# Altium integrated library TI_Logic_Specialty_Logic.IntLib: 2504 symbols (part 2 of 81)
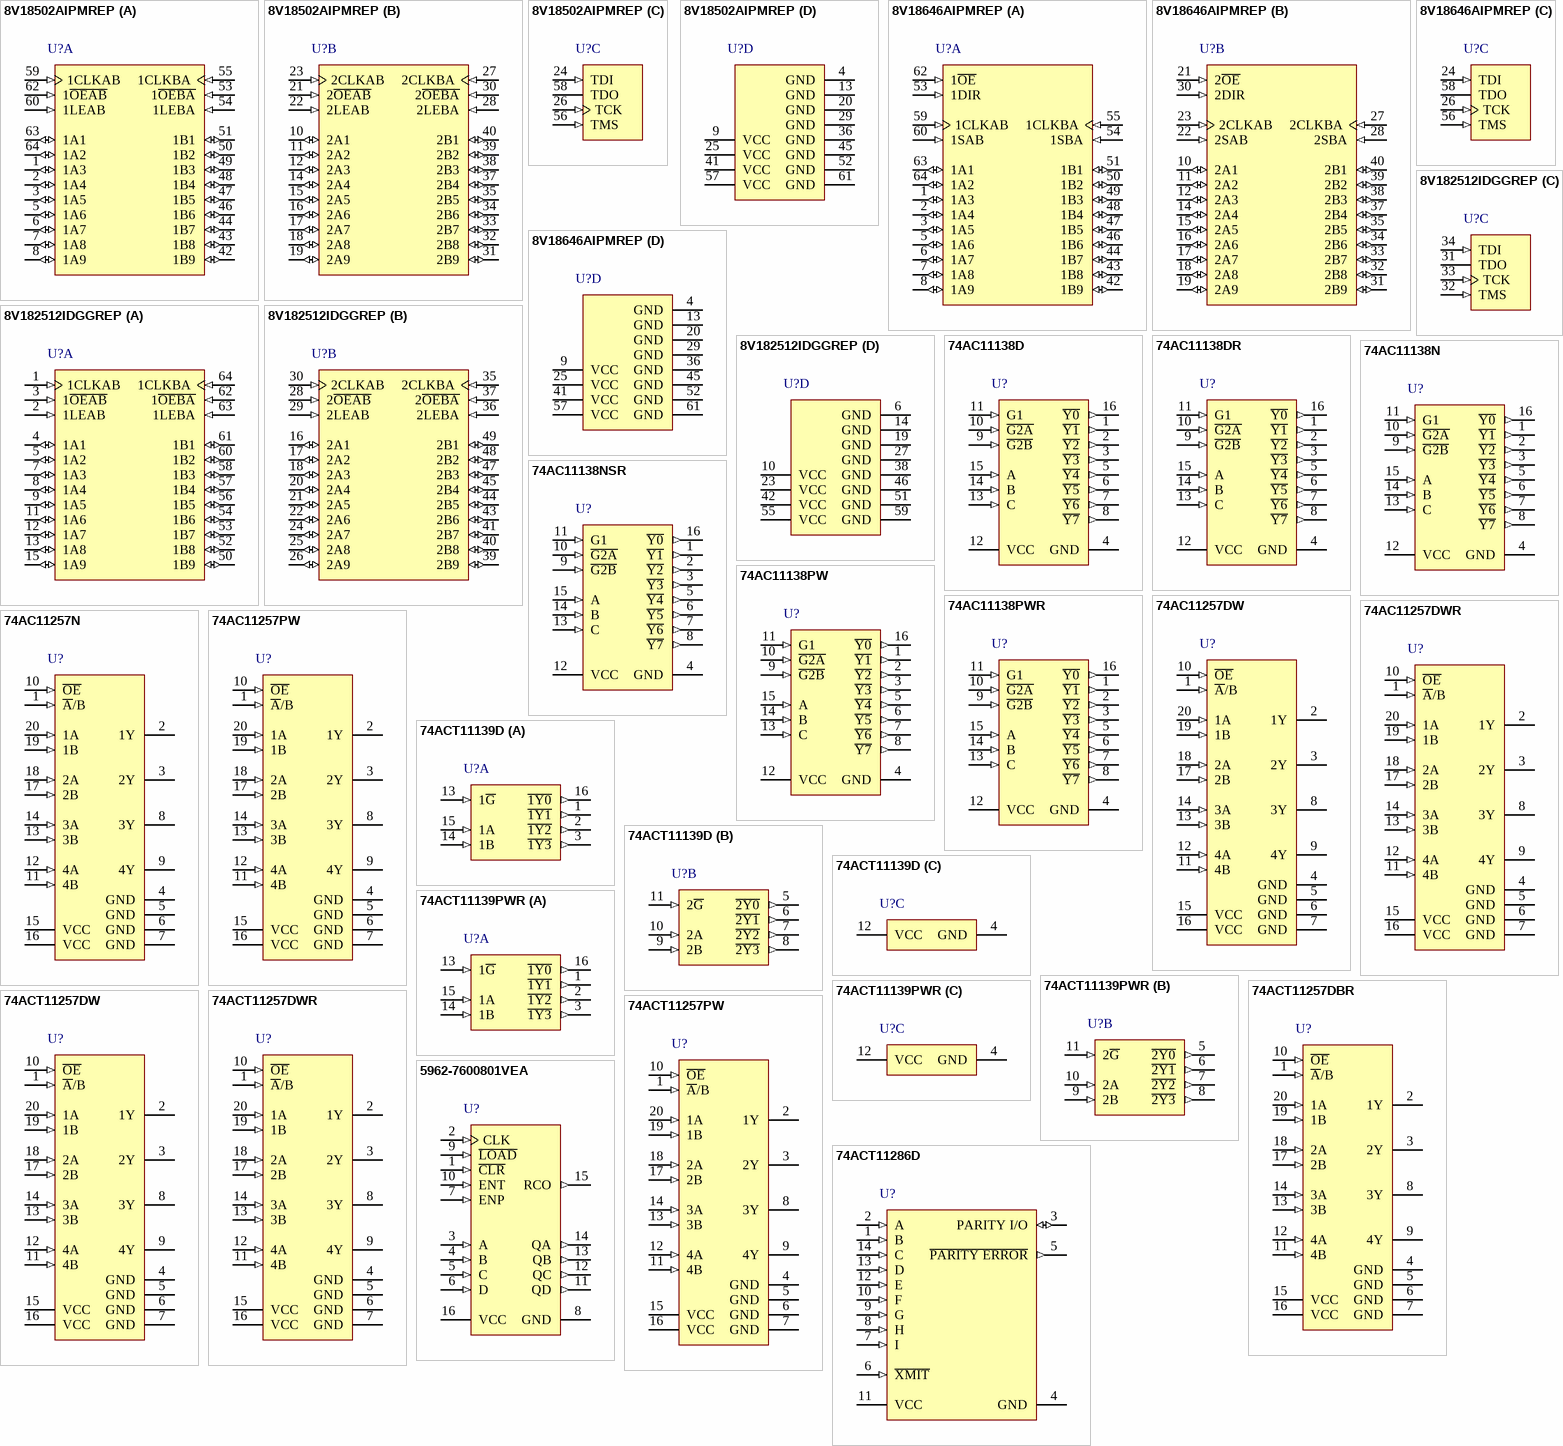
[diagram p105: symbols 8V18502AIPMREP to 5962-7600801VEA]

## 5962-7600801VEA
designator U?
Synchronous 4-Bit Counters, J0016A, TUBE; Generic Part Number: SN54LS161A-SP; Manufacturer: Texas Instruments; PartNumber: 5962-7600801VEA; VCC(Min)(V): 4.75; VCC(Max)(V): 5.25; Inputs: 1; ICC @ Nom Voltage(Max)(mA): 32; Bits(#): 4; F @ Nom Voltage(Max)(Mhz): 35; Rating: Space; Technology Family: LS; Output Drive (IOL/IOH)(Max)(mA): 8/-0.4; DatasheetVersion: SDLS060; PackageReference: J0016A; Function: Counter; Operating Temperature Range(C): -55 to 125; Type: Binary; tpd @ Nom Voltage(Max)(ns): 35; ComponentLink1Description: Manufacturer URL; ComponentLink1URL: http://www.ti.com/; ComponentLink2Description: Datasheet; ComponentLink2URL: http://www.ti.com/lit/ds/symlink/sn54ls161a-sp.pdf; ComponentLink3Description: Package Specification; ComponentLink3URL: http://www.ti.com/lit/ml/mcer002d/mcer002d.pdf
footprint J0016A (DIP, 16-Leads, Body 21.35x7.2mm, Pitch 2.54mm)
pins: 1 ~{CLR} (in), 2 CLK (in), 3 A (in), 4 B (in), 5 C (in), 6 D (in), 7 ENP (in), 8 GND (power), 9 ~{LOAD} (in), 10 ENT (in), 11 QD (out), 12 QC (out), 13 QB (out), 14 QA (out), 15 RCO (out), 16 VCC (power)

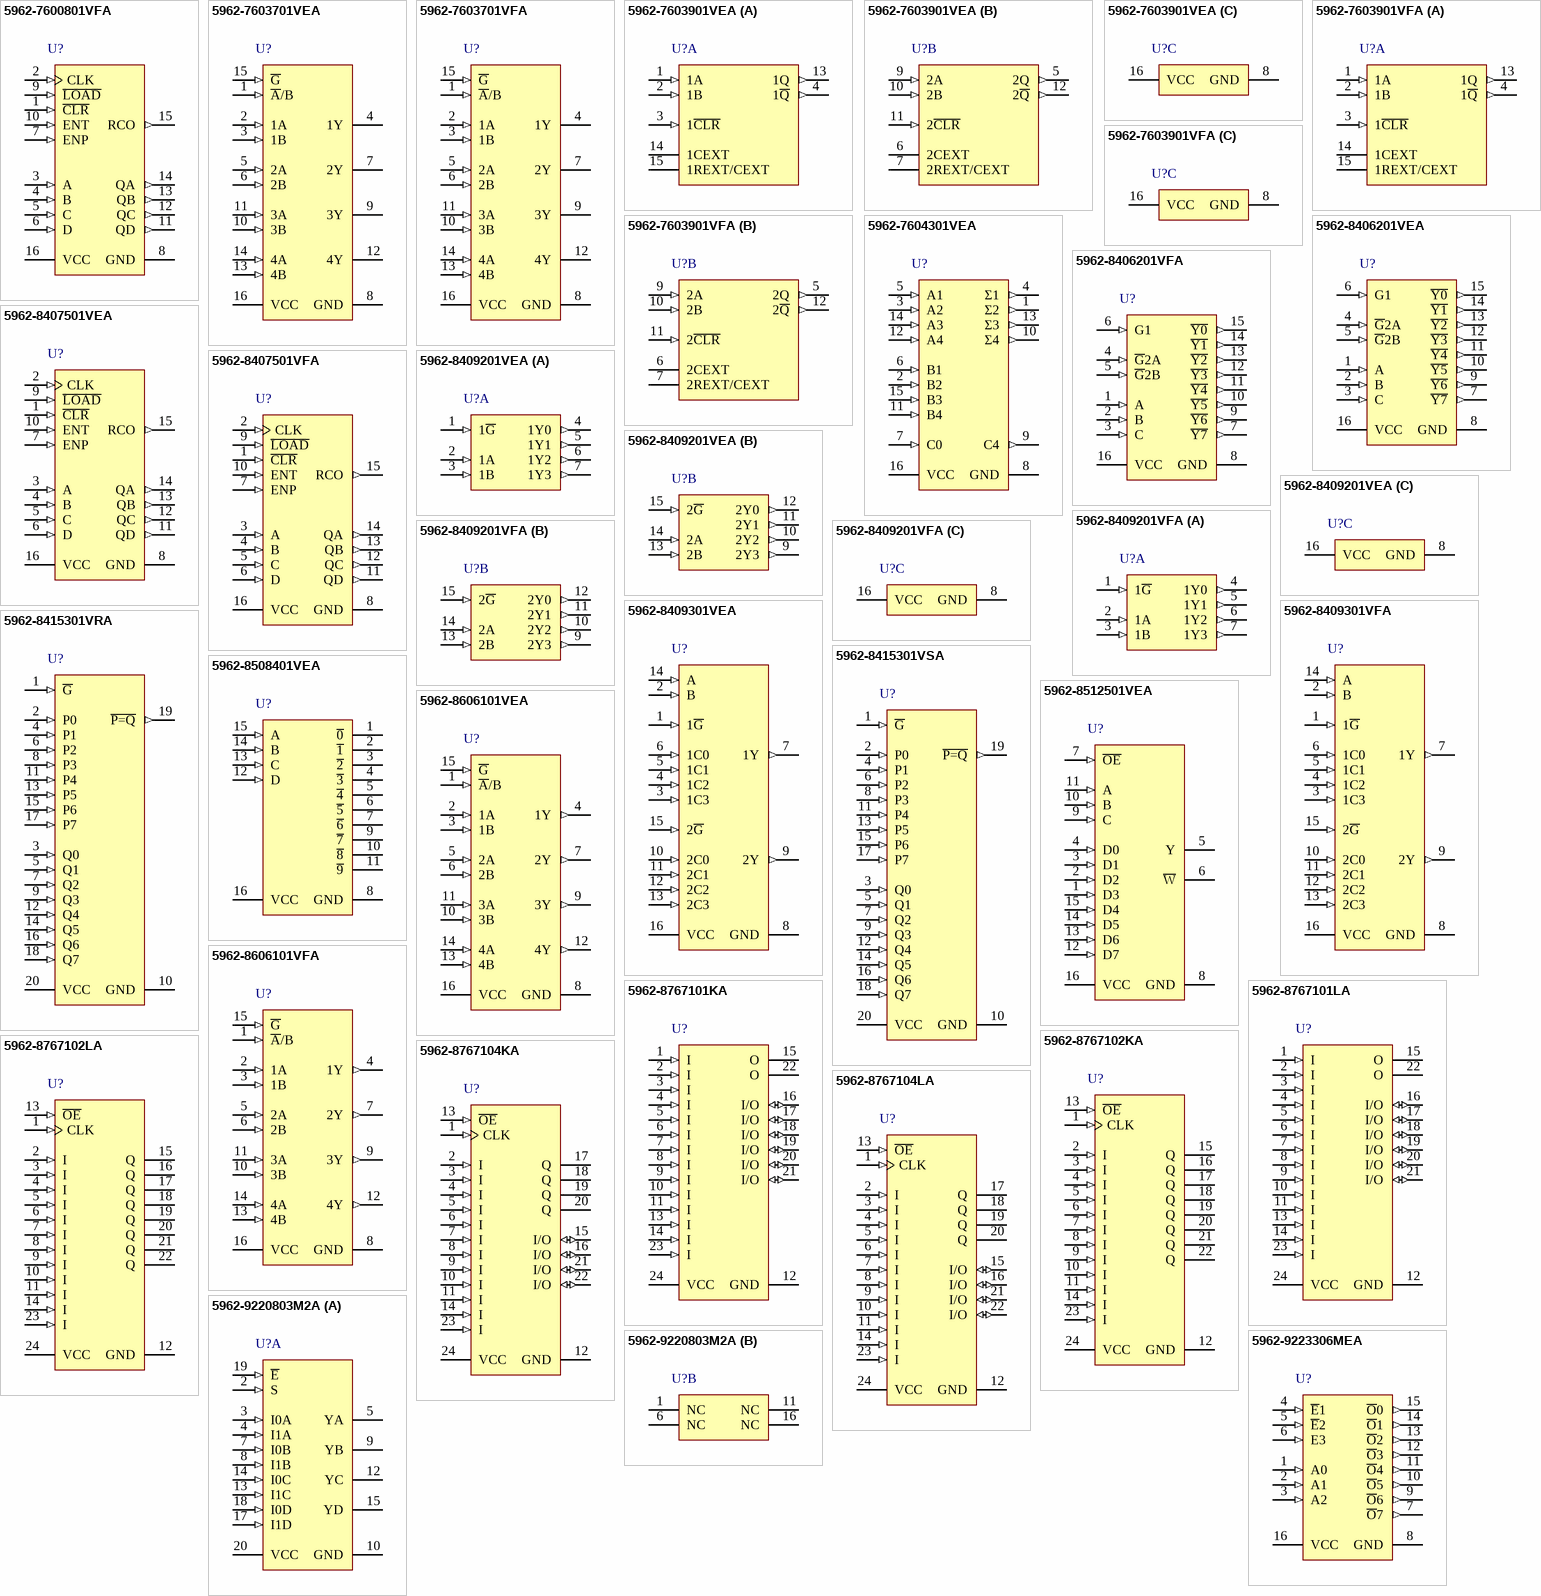
[diagram p1: symbols 5962-7600801VFA to 5962-9223306MEA]

## 5962-7600801VFA
designator U?
Synchronous 4-Bit Counters, W0016A, TUBE; Generic Part Number: SN54LS161A-SP; Manufacturer: Texas Instruments; PartNumber: 5962-7600801VFA; VCC(Min)(V): 4.75; VCC(Max)(V): 5.25; Inputs: 1; ICC @ Nom Voltage(Max)(mA): 32; Bits(#): 4; F @ Nom Voltage(Max)(Mhz): 35; Rating: Space; Technology Family: LS; Output Drive (IOL/IOH)(Max)(mA): 8/-0.4; DatasheetVersion: SDLS060; PackageReference: W0016A; Function: Counter; Operating Temperature Range(C): -55 to 125; Type: Binary; tpd @ Nom Voltage(Max)(ns): 35; ComponentLink1Description: Manufacturer URL; ComponentLink1URL: http://www.ti.com/; ComponentLink2Description: Datasheet; ComponentLink2URL: http://www.ti.com/lit/ds/symlink/sn54ls161a-sp.pdf; ComponentLink3Description: Package Specification; ComponentLink3URL: http://www.ti.com/lit/ml/mcfp004c/mcfp004c.pdf
footprint W0016A_N (CFP, 16-Leads, Body 10.92x7.24mm, Pitch 1.27mm, IPC Medium Density)
footprint W0016A_M (CFP, 16-Leads, Body 10.92x7.24mm, Pitch 1.27mm, IPC Low Density)
footprint W0016A_L (CFP, 16-Leads, Body 10.92x7.24mm, Pitch 1.27mm, IPC High Density)
pins: 1 ~{CLR} (in), 2 CLK (in), 3 A (in), 4 B (in), 5 C (in), 6 D (in), 7 ENP (in), 8 GND (power), 9 ~{LOAD} (in), 10 ENT (in), 11 QD (out), 12 QC (out), 13 QB (out), 14 QA (out), 15 RCO (out), 16 VCC (power)

## 5962-7603701VEA
designator U?
Quadruple 2-Line To 1-Line Data Selectors/Multiplexers, J0016A, TUBE; Generic Part Number: SN54LS257B-SP; Manufacturer: Texas Instruments; PartNumber: 5962-7603701VEA; VCC(Min)(V): 4.5; VCC(Max)(V): 5.5; Rating: Space; Technology Family: LS; Schmitt Trigger: No; DatasheetVersion: SDLS148; PackageReference: J0016A; Operating Temperature Range(C): -55 to 125; ComponentLink1Description: Manufacturer URL; ComponentLink1URL: http://www.ti.com/; ComponentLink2Description: Datasheet; ComponentLink2URL: http://www.ti.com/lit/ds/symlink/sn54ls257b-sp.pdf; ComponentLink3Description: Package Specification; ComponentLink3URL: http://www.ti.com/lit/ml/mcer002d/mcer002d.pdf
footprint J0016A (DIP, 16-Leads, Body 21.35x7.2mm, Pitch 2.54mm)
pins: 1 ~{A}/B (in), 2 1A (in), 3 1B (in), 4 1Y (hiz), 5 2A (in), 6 2B (in), 7 2Y (hiz), 8 GND (power), 9 3Y (hiz), 10 3B (in), 11 3A (in), 12 4Y (hiz), 13 4B (in), 14 4A (in), 15 ~{G} (in), 16 VCC (power)

## 5962-7603701VFA
designator U?
Quadruple 2-Line To 1-Line Data Selectors/Multiplexers, W0016A, TUBE; Generic Part Number: SN54LS257B-SP; Manufacturer: Texas Instruments; PartNumber: 5962-7603701VFA; VCC(Min)(V): 4.5; VCC(Max)(V): 5.5; Rating: Space; Technology Family: LS; Schmitt Trigger: No; DatasheetVersion: SDLS148; PackageReference: W0016A; Operating Temperature Range(C): -55 to 125; ComponentLink1Description: Manufacturer URL; ComponentLink1URL: http://www.ti.com/; ComponentLink2Description: Datasheet; ComponentLink2URL: http://www.ti.com/lit/ds/symlink/sn54ls257b-sp.pdf; ComponentLink3Description: Package Specification; ComponentLink3URL: http://www.ti.com/lit/ml/mcfp004c/mcfp004c.pdf
footprint W0016A_N (CFP, 16-Leads, Body 10.92x7.24mm, Pitch 1.27mm, IPC Medium Density)
footprint W0016A_M (CFP, 16-Leads, Body 10.92x7.24mm, Pitch 1.27mm, IPC Low Density)
footprint W0016A_L (CFP, 16-Leads, Body 10.92x7.24mm, Pitch 1.27mm, IPC High Density)
pins: 1 ~{A}/B (in), 2 1A (in), 3 1B (in), 4 1Y (hiz), 5 2A (in), 6 2B (in), 7 2Y (hiz), 8 GND (power), 9 3Y (hiz), 10 3B (in), 11 3A (in), 12 4Y (hiz), 13 4B (in), 14 4A (in), 15 ~{G} (in), 16 VCC (power)

## 5962-7603901VEA
designator U?
Retriggerable Monostable Multivibrators, J0016A, TUBE; Generic Part Number: SN54LS123-SP; Manufacturer: Texas Instruments; PartNumber: 5962-7603901VEA; VCC(Min)(V): 4.75; VCC(Max)(V): 5.25; Output Type: TTL; ICC @ Nom Voltage(Max)(mA): 20; Bits(#): 2; Rating: Space; Technology Family: LS; Output Drive (IOL/IOH)(Max)(mA): 8/-0.4; tpd @ Nom Voltage(Max)(ns): 56; DatasheetVersion: SDLS043; PackageReference: J0016A; Input Type: TTL; Operating Temperature Range(C): -55 to 125; ComponentLink1Description: Manufacturer URL; ComponentLink1URL: http://www.ti.com/; ComponentLink2Description: Datasheet; ComponentLink2URL: http://www.ti.com/lit/ds/symlink/sn54ls123-sp.pdf; ComponentLink3Description: Package Specification; ComponentLink3URL: http://www.ti.com/lit/ml/mcer002d/mcer002d.pdf
footprint J0016A (DIP, 16-Leads, Body 21.35x7.2mm, Pitch 2.54mm)
part A pins: 1 1A (in), 2 1B (in), 3 1~{CLR} (in), 4 1~{Q} (out), 13 1Q (out), 14 1CEXT, 15 1REXT/CEXT
part B pins: 5 2Q (out), 6 2CEXT, 7 2REXT/CEXT, 9 2A (in), 10 2B (in), 11 2~{CLR} (in), 12 2~{Q} (out)
part C pins: 8 GND (power), 16 VCC (power)

## 5962-7603901VFA
designator U?
Retriggerable Monostable Multivibrators, W0016A, TUBE; Generic Part Number: SN54LS123-SP; Manufacturer: Texas Instruments; PartNumber: 5962-7603901VFA; VCC(Min)(V): 4.75; VCC(Max)(V): 5.25; Output Type: TTL; ICC @ Nom Voltage(Max)(mA): 20; Bits(#): 2; Rating: Space; Technology Family: LS; Output Drive (IOL/IOH)(Max)(mA): 8/-0.4; tpd @ Nom Voltage(Max)(ns): 56; DatasheetVersion: SDLS043; PackageReference: W0016A; Input Type: TTL; Operating Temperature Range(C): -55 to 125; ComponentLink1Description: Manufacturer URL; ComponentLink1URL: http://www.ti.com/; ComponentLink2Description: Datasheet; ComponentLink2URL: http://www.ti.com/lit/ds/symlink/sn54ls123-sp.pdf; ComponentLink3Description: Package Specification; ComponentLink3URL: http://www.ti.com/lit/ml/mcfp004c/mcfp004c.pdf
footprint W0016A_N (CFP, 16-Leads, Body 10.92x7.24mm, Pitch 1.27mm, IPC Medium Density)
footprint W0016A_M (CFP, 16-Leads, Body 10.92x7.24mm, Pitch 1.27mm, IPC Low Density)
footprint W0016A_L (CFP, 16-Leads, Body 10.92x7.24mm, Pitch 1.27mm, IPC High Density)
part A pins: 1 1A (in), 2 1B (in), 3 1~{CLR} (in), 4 1~{Q} (out), 13 1Q (out), 14 1CEXT, 15 1REXT/CEXT
part B pins: 5 2Q (out), 6 2CEXT, 7 2REXT/CEXT, 9 2A (in), 10 2B (in), 11 2~{CLR} (in), 12 2~{Q} (out)
part C pins: 8 GND (power), 16 VCC (power)

## 5962-7604301VEA
designator U?
4-Bit Binary Full Adders With Fast Carry, J0016A, TUBE; Generic Part Number: SN54LS283-SP; Manufacturer: Texas Instruments; PartNumber: 5962-7604301VEA; VCC(Min)(V): 4.75; VCC(Max)(V): 5.25; Inputs: 9; Function: Arithmetic; ICC @ Nom Voltage(Max)(mA): 34; Bits(#): 4; F @ Nom Voltage(Max)(Mhz): 35; Rating: Space; Technology Family: LS; Output Drive (IOL/IOH)(Max)(mA): 8/-0.4; tpd @ Nom Voltage(Max)(ns): 24; DatasheetVersion: SDLS095A; PackageReference: J0016A; Type: Binary; ComponentLink1Description: Manufacturer URL; ComponentLink1URL: http://www.ti.com/; ComponentLink2Description: Datasheet; ComponentLink2URL: http://www.ti.com/lit/ds/symlink/sn54ls283-sp.pdf; ComponentLink3Description: Package Specification; ComponentLink3URL: http://www.ti.com/lit/ml/mcer002d/mcer002d.pdf
footprint J0016A (DIP, 16-Leads, Body 21.35x7.2mm, Pitch 2.54mm)
pins: 1 Σ2 (out), 2 B2 (in), 3 A2 (in), 4 Σ1 (out), 5 A1 (in), 6 B1 (in), 7 C0 (in), 8 GND (power), 9 C4 (out), 10 Σ4 (out), 11 B4 (in), 12 A4 (in), 13 Σ3 (out), 14 A3 (in), 15 B3 (in), 16 VCC (power)

## 5962-8406201VEA
designator U?
3-Line To 8-Line Decoders/Demultiplexers, J0016A, TUBE; Generic Part Number: SN54HC138-SP; Manufacturer: Texas Instruments; PartNumber: 5962-8406201VEA; VCC(Min)(V): 2; VCC(Max)(V): 6; Rating: Space; Technology Family: HC; Schmitt Trigger: No; DatasheetVersion: SCLS107E; PackageReference: J0016A; Operating Temperature Range(C): -55 to 125; ComponentLink1Description: Manufacturer URL; ComponentLink1URL: http://www.ti.com/; ComponentLink2Description: Datasheet; ComponentLink2URL: http://www.ti.com/lit/ds/symlink/sn54hc138-sp.pdf; ComponentLink3Description: Package Specification; ComponentLink3URL: http://www.ti.com/lit/ml/mcer002d/mcer002d.pdf
footprint J0016A (DIP, 16-Leads, Body 21.35x7.2mm, Pitch 2.54mm)
pins: 1 A (in), 2 B (in), 3 C (in), 4 ~{G}2A (in), 5 ~{G}2B (in), 6 G1 (in), 7 ~{Y7} (out), 8 GND (power), 9 ~{Y6} (out), 10 ~{Y5} (out), 11 ~{Y4} (out), 12 ~{Y3} (out), 13 ~{Y2} (out), 14 ~{Y1} (out), 15 ~{Y0} (out), 16 VCC (power)

## 5962-8406201VFA
designator U?
3-Line To 8-Line Decoders/Demultiplexers, W0016A, TUBE; Generic Part Number: SN54HC138-SP; Manufacturer: Texas Instruments; PartNumber: 5962-8406201VFA; VCC(Min)(V): 2; VCC(Max)(V): 6; Rating: Space; Technology Family: HC; Schmitt Trigger: No; DatasheetVersion: SCLS107E; PackageReference: W0016A; Operating Temperature Range(C): -55 to 125; ComponentLink1Description: Manufacturer URL; ComponentLink1URL: http://www.ti.com/; ComponentLink2Description: Datasheet; ComponentLink2URL: http://www.ti.com/lit/ds/symlink/sn54hc138-sp.pdf; ComponentLink3Description: Package Specification; ComponentLink3URL: http://www.ti.com/lit/ml/mcfp004c/mcfp004c.pdf
footprint W0016A_N (CFP, 16-Leads, Body 10.92x7.24mm, Pitch 1.27mm, IPC Medium Density)
footprint W0016A_M (CFP, 16-Leads, Body 10.92x7.24mm, Pitch 1.27mm, IPC Low Density)
footprint W0016A_L (CFP, 16-Leads, Body 10.92x7.24mm, Pitch 1.27mm, IPC High Density)
pins: 1 A (in), 2 B (in), 3 C (in), 4 ~{G}2A (in), 5 ~{G}2B (in), 6 G1 (in), 7 ~{Y7} (out), 8 GND (power), 9 ~{Y6} (out), 10 ~{Y5} (out), 11 ~{Y4} (out), 12 ~{Y3} (out), 13 ~{Y2} (out), 14 ~{Y1} (out), 15 ~{Y0} (out), 16 VCC (power)

## 5962-8407501VEA
designator U?
Synchronous 4-Bit Binary Counters, J0016A, TUBE; Generic Part Number: SN54HC161-SP; Manufacturer: Texas Instruments; PartNumber: 5962-8407501VEA; VCC(Min)(V): 2; VCC(Max)(V): 6; Inputs: 1; ICC @ Nom Voltage(Max)(mA): 0.08; Bits(#): 4; F @ Nom Voltage(Max)(Mhz): 28; Rating: Space; Technology Family: HC; Output Drive (IOL/IOH)(Max)(mA): 5.2/-5.2; tpd @ Nom Voltage(Max)(ns): 46; DatasheetVersion: SCLS297D; PackageReference: J0016A; Function: Counter; Type: Binary; ComponentLink1Description: Manufacturer URL; ComponentLink1URL: http://www.ti.com/; ComponentLink2Description: Datasheet; ComponentLink2URL: http://www.ti.com/lit/ds/symlink/sn54hc161-sp.pdf; ComponentLink3Description: Package Specification; ComponentLink3URL: http://www.ti.com/lit/ml/mcer002d/mcer002d.pdf
footprint J0016A (DIP, 16-Leads, Body 21.35x7.2mm, Pitch 2.54mm)
pins: 1 ~{CLR} (in), 2 CLK (in), 3 A (in), 4 B (in), 5 C (in), 6 D (in), 7 ENP (in), 8 GND (power), 9 ~{LOAD} (in), 10 ENT (in), 11 QD (out), 12 QC (out), 13 QB (out), 14 QA (out), 15 RCO (out), 16 VCC (power)

## 5962-8407501VFA
designator U?
Synchronous 4-Bit Binary Counters, W0016A, TUBE; Generic Part Number: SN54HC161-SP; Manufacturer: Texas Instruments; PartNumber: 5962-8407501VFA; VCC(Min)(V): 2; VCC(Max)(V): 6; Inputs: 1; ICC @ Nom Voltage(Max)(mA): 0.08; Bits(#): 4; F @ Nom Voltage(Max)(Mhz): 28; Rating: Space; Technology Family: HC; Output Drive (IOL/IOH)(Max)(mA): 5.2/-5.2; tpd @ Nom Voltage(Max)(ns): 46; DatasheetVersion: SCLS297D; PackageReference: W0016A; Function: Counter; Type: Binary; ComponentLink1Description: Manufacturer URL; ComponentLink1URL: http://www.ti.com/; ComponentLink2Description: Datasheet; ComponentLink2URL: http://www.ti.com/lit/ds/symlink/sn54hc161-sp.pdf; ComponentLink3Description: Package Specification; ComponentLink3URL: http://www.ti.com/lit/ml/mcfp004c/mcfp004c.pdf
footprint W0016A_N (CFP, 16-Leads, Body 10.92x7.24mm, Pitch 1.27mm, IPC Medium Density)
footprint W0016A_M (CFP, 16-Leads, Body 10.92x7.24mm, Pitch 1.27mm, IPC Low Density)
footprint W0016A_L (CFP, 16-Leads, Body 10.92x7.24mm, Pitch 1.27mm, IPC High Density)
pins: 1 ~{CLR} (in), 2 CLK (in), 3 A (in), 4 B (in), 5 C (in), 6 D (in), 7 ENP (in), 8 GND (power), 9 ~{LOAD} (in), 10 ENT (in), 11 QD (out), 12 QC (out), 13 QB (out), 14 QA (out), 15 RCO (out), 16 VCC (power)

## 5962-8409201VEA
designator U?
Dual 2-Line To 4-Line Decoders/Demultiplexers, J0016A, TUBE; Generic Part Number: SN54HC139-SP; Manufacturer: Texas Instruments; PartNumber: 5962-8409201VEA; VCC(Min)(V): 2; VCC(Max)(V): 6; Rating: Space; Technology Family: HC; Schmitt Trigger: No; DatasheetVersion: SCLS108D; PackageReference: J0016A; ComponentLink1Description: Manufacturer URL; ComponentLink1URL: http://www.ti.com/; ComponentLink2Description: Datasheet; ComponentLink2URL: http://www.ti.com/lit/ds/symlink/sn54hc139-sp.pdf; ComponentLink3Description: Package Specification; ComponentLink3URL: http://www.ti.com/lit/ml/mcer002d/mcer002d.pdf
footprint J0016A (DIP, 16-Leads, Body 21.35x7.2mm, Pitch 2.54mm)
part A pins: 1 1~{G} (in), 2 1A (in), 3 1B (in), 4 1Y0 (out), 5 1Y1 (out), 6 1Y2 (out), 7 1Y3 (out)
part B pins: 9 2Y3 (out), 10 2Y2 (out), 11 2Y1 (out), 12 2Y0 (out), 13 2B (in), 14 2A (in), 15 2~{G} (in)
part C pins: 8 GND (power), 16 VCC (power)

## 5962-8409201VFA
designator U?
Dual 2-Line To 4-Line Decoders/Demultiplexers, W0016A, TUBE; Generic Part Number: SN54HC139-SP; Manufacturer: Texas Instruments; PartNumber: 5962-8409201VFA; VCC(Min)(V): 2; VCC(Max)(V): 6; Rating: Space; Technology Family: HC; Schmitt Trigger: No; DatasheetVersion: SCLS108D; PackageReference: W0016A; ComponentLink1Description: Manufacturer URL; ComponentLink1URL: http://www.ti.com/; ComponentLink2Description: Datasheet; ComponentLink2URL: http://www.ti.com/lit/ds/symlink/sn54hc139-sp.pdf; ComponentLink3Description: Package Specification; ComponentLink3URL: http://www.ti.com/lit/ml/mcfp004c/mcfp004c.pdf
footprint W0016A_N (CFP, 16-Leads, Body 10.92x7.24mm, Pitch 1.27mm, IPC Medium Density)
footprint W0016A_M (CFP, 16-Leads, Body 10.92x7.24mm, Pitch 1.27mm, IPC Low Density)
footprint W0016A_L (CFP, 16-Leads, Body 10.92x7.24mm, Pitch 1.27mm, IPC High Density)
part A pins: 1 1~{G} (in), 2 1A (in), 3 1B (in), 4 1Y0 (out), 5 1Y1 (out), 6 1Y2 (out), 7 1Y3 (out)
part B pins: 9 2Y3 (out), 10 2Y2 (out), 11 2Y1 (out), 12 2Y0 (out), 13 2B (in), 14 2A (in), 15 2~{G} (in)
part C pins: 8 GND (power), 16 VCC (power)

## 5962-8409301VEA
designator U?
Dual 4-Line To 1-Line Data Selectors/Multiplexers, J0016A, TUBE; Generic Part Number: SN54HC153-SP; Manufacturer: Texas Instruments; PartNumber: 5962-8409301VEA; VCC(Min)(V): 2; VCC(Max)(V): 6; Rating: Space; Technology Family: HC; Schmitt Trigger: No; DatasheetVersion: SCLS112D; PackageReference: J0016A; ComponentLink1Description: Manufacturer URL; ComponentLink1URL: http://www.ti.com/; ComponentLink2Description: Datasheet; ComponentLink2URL: http://www.ti.com/lit/ds/symlink/sn54hc153-sp.pdf; ComponentLink3Description: Package Specification; ComponentLink3URL: http://www.ti.com/lit/ml/mcer002d/mcer002d.pdf
footprint J0016A (DIP, 16-Leads, Body 21.35x7.2mm, Pitch 2.54mm)
pins: 1 1~{G} (in), 2 B (in), 3 1C3 (in), 4 1C2 (in), 5 1C1 (in), 6 1C0 (in), 7 1Y (out), 8 GND (power), 9 2Y (out), 10 2C0 (in), 11 2C1 (in), 12 2C2 (in), 13 2C3 (in), 14 A (in), 15 2~{G} (in), 16 VCC (power)

## 5962-8409301VFA
designator U?
Dual 4-Line To 1-Line Data Selectors/Multiplexers, W0016A, TUBE; Generic Part Number: SN54HC153-SP; Manufacturer: Texas Instruments; PartNumber: 5962-8409301VFA; VCC(Min)(V): 2; VCC(Max)(V): 6; Rating: Space; Technology Family: HC; Schmitt Trigger: No; DatasheetVersion: SCLS112D; PackageReference: W0016A; ComponentLink1Description: Manufacturer URL; ComponentLink1URL: http://www.ti.com/; ComponentLink2Description: Datasheet; ComponentLink2URL: http://www.ti.com/lit/ds/symlink/sn54hc153-sp.pdf; ComponentLink3Description: Package Specification; ComponentLink3URL: http://www.ti.com/lit/ml/mcfp004c/mcfp004c.pdf
footprint W0016A_N (CFP, 16-Leads, Body 10.92x7.24mm, Pitch 1.27mm, IPC Medium Density)
footprint W0016A_M (CFP, 16-Leads, Body 10.92x7.24mm, Pitch 1.27mm, IPC Low Density)
footprint W0016A_L (CFP, 16-Leads, Body 10.92x7.24mm, Pitch 1.27mm, IPC High Density)
pins: 1 1~{G} (in), 2 B (in), 3 1C3 (in), 4 1C2 (in), 5 1C1 (in), 6 1C0 (in), 7 1Y (out), 8 GND (power), 9 2Y (out), 10 2C0 (in), 11 2C1 (in), 12 2C2 (in), 13 2C3 (in), 14 A (in), 15 2~{G} (in), 16 VCC (power)

## 5962-8415301VRA
designator U?
8-Bit Identity/Magnitude Comparators (P=Q) with Enable, J0020A, TUBE; Generic Part Number: SN54LS688-SP; Manufacturer: Texas Instruments; PartNumber: 5962-8415301VRA; VCC(Min)(V): 4.85; VCC(Max)(V): 5.25; Output Type: TTL; ICC @ Nom Voltage(Max)(mA): 65; Bits(#): 8; Rating: Space; Technology Family: LS; Output Drive (IOL/IOH)(Max)(mA): 24/-0.4; tpd @ Nom Voltage(Max)(ns): 23; DatasheetVersion: SDLS008; PackageReference: J0020A; Input Type: TTL; Operating Temperature Range(C): -55 to 125; ComponentLink1Description: Manufacturer URL; ComponentLink1URL: http://www.ti.com/; ComponentLink2Description: Datasheet; ComponentLink2URL: http://www.ti.com/lit/ds/symlink/sn54ls688-sp.pdf
footprint J0020A (DIP, 20-Leads, Body 26.9x7.2mm, Pitch 2.54mm)
pins: 1 ~{G} (in), 2 P0 (in), 3 Q0 (in), 4 P1 (in), 5 Q1 (in), 6 P2 (in), 7 Q2 (in), 8 P3 (in), 9 Q3 (in), 10 GND (power), 11 P4 (in), 12 Q4 (in), 13 P5 (in), 14 Q5 (in), 15 P6 (in), 16 Q6 (in), 17 P7 (in), 18 Q7 (in), 19 ~{P=Q} (out), 20 VCC (power)

## 5962-8415301VSA
designator U?
8-Bit Identity/Magnitude Comparators (P=Q) with Enable, W0020A, TUBE; Generic Part Number: SN54LS688-SP; Manufacturer: Texas Instruments; PartNumber: 5962-8415301VSA; VCC(Min)(V): 4.85; VCC(Max)(V): 5.25; Output Type: TTL; ICC @ Nom Voltage(Max)(mA): 65; Bits(#): 8; Rating: Space; Technology Family: LS; Output Drive (IOL/IOH)(Max)(mA): 24/-0.4; tpd @ Nom Voltage(Max)(ns): 23; DatasheetVersion: SDLS008; PackageReference: W0020A; Input Type: TTL; Operating Temperature Range(C): -55 to 125; ComponentLink1Description: Manufacturer URL; ComponentLink1URL: http://www.ti.com/; ComponentLink2Description: Datasheet; ComponentLink2URL: http://www.ti.com/lit/ds/symlink/sn54ls688-sp.pdf
footprint W0020A_N (CFP, 20-Leads, Body 13.72x7.62mm, Pitch 1.27mm, IPC Medium Density)
footprint W0020A_M (CFP, 20-Leads, Body 13.72x7.62mm, Pitch 1.27mm, IPC Low Density)
footprint W0020A_L (CFP, 20-Leads, Body 13.72x7.62mm, Pitch 1.27mm, IPC High Density)
pins: 1 ~{G} (in), 2 P0 (in), 3 Q0 (in), 4 P1 (in), 5 Q1 (in), 6 P2 (in), 7 Q2 (in), 8 P3 (in), 9 Q3 (in), 10 GND (power), 11 P4 (in), 12 Q4 (in), 13 P5 (in), 14 Q5 (in), 15 P6 (in), 16 Q6 (in), 17 P7 (in), 18 Q7 (in), 19 ~{P=Q} (out), 20 VCC (power)

## 5962-8508401VEA
designator U?
BCD-to-Decimal Decoders/Drivers, J0016A, TUBE; Generic Part Number: SN54LS145-SP; Manufacturer: Texas Instruments; PartNumber: 5962-8508401VEA; VCC(Min)(V): 4.5; VCC(Max)(V): 5.5; Rating: Space; Technology Family: LS; Schmitt Trigger: No; DatasheetVersion: SDLS051; PackageReference: J0016A; ComponentLink1Description: Manufacturer URL; ComponentLink1URL: http://www.ti.com/; ComponentLink2Description: Datasheet; ComponentLink2URL: http://www.ti.com/lit/ds/symlink/sn54ls145-sp.pdf; ComponentLink3Description: Package Specification; ComponentLink3URL: http://www.ti.com/lit/ml/mcer002d/mcer002d.pdf
footprint J0016A (DIP, 16-Leads, Body 21.35x7.2mm, Pitch 2.54mm)
pins: 1 ~{0} (oc), 2 ~{1} (oc), 3 ~{2} (oc), 4 ~{3} (oc), 5 ~{4} (oc), 6 ~{5} (oc), 7 ~{6} (oc), 8 GND (power), 9 ~{7} (oc), 10 ~{8} (oc), 11 ~{9} (oc), 12 D (in), 13 C (in), 14 B (in), 15 A (in), 16 VCC (power)

## 5962-8512501VEA
designator U?
Data Selectors/Multiplexers With 3-State Outputs, J0016A, TUBE; Generic Part Number: SN54HC251-SP; Manufacturer: Texas Instruments; PartNumber: 5962-8512501VEA; VCC(Min)(V): 2; VCC(Max)(V): 6; Rating: Space; Technology Family: HC; Schmitt Trigger: No; DatasheetVersion: SCLS132E; PackageReference: J0016A; ComponentLink1Description: Manufacturer URL; ComponentLink1URL: http://www.ti.com/; ComponentLink2Description: Datasheet; ComponentLink2URL: http://www.ti.com/lit/ds/symlink/sn54hc251-sp.pdf; ComponentLink3Description: Package Specification; ComponentLink3URL: http://www.ti.com/lit/ml/mcer002d/mcer002d.pdf
footprint J0016A (DIP, 16-Leads, Body 21.35x7.2mm, Pitch 2.54mm)
pins: 1 D3 (in), 2 D2 (in), 3 D1 (in), 4 D0 (in), 5 Y (hiz), 6 ~{W} (hiz), 7 ~{OE} (in), 8 GND (power), 9 C (in), 10 B (in), 11 A (in), 12 D7 (in), 13 D6 (in), 14 D5 (in), 15 D4 (in), 16 VCC (power)

## 5962-8606101VEA
designator U?
Quadruple 2-Line To 1-Line Data Selectors/Multiplexers, J0016A, TUBE; Generic Part Number: SN54HC157-SP; Manufacturer: Texas Instruments; PartNumber: 5962-8606101VEA; VCC(Min)(V): 2; VCC(Max)(V): 6; Rating: Space; Technology Family: HC; Schmitt Trigger: No; DatasheetVersion: SCLS113D; PackageReference: J0016A; ComponentLink1Description: Manufacturer URL; ComponentLink1URL: http://www.ti.com/; ComponentLink2Description: Datasheet; ComponentLink2URL: http://www.ti.com/lit/ds/symlink/sn54hc157-sp.pdf; ComponentLink3Description: Package Specification; ComponentLink3URL: http://www.ti.com/lit/ml/mcer002d/mcer002d.pdf
footprint J0016A (DIP, 16-Leads, Body 21.35x7.2mm, Pitch 2.54mm)
pins: 1 ~{A}/B (in), 2 1A (in), 3 1B (in), 4 1Y (out), 5 2A (in), 6 2B (in), 7 2Y (out), 8 GND (power), 9 3Y (out), 10 3B (in), 11 3A (in), 12 4Y (out), 13 4B (in), 14 4A (in), 15 ~{G} (in), 16 VCC (power)

## 5962-8606101VFA
designator U?
Quadruple 2-Line To 1-Line Data Selectors/Multiplexers, W0016A, TUBE; Generic Part Number: SN54HC157-SP; Manufacturer: Texas Instruments; PartNumber: 5962-8606101VFA; VCC(Min)(V): 2; VCC(Max)(V): 6; Rating: Space; Technology Family: HC; Schmitt Trigger: No; DatasheetVersion: SCLS113D; PackageReference: W0016A; ComponentLink1Description: Manufacturer URL; ComponentLink1URL: http://www.ti.com/; ComponentLink2Description: Datasheet; ComponentLink2URL: http://www.ti.com/lit/ds/symlink/sn54hc157-sp.pdf; ComponentLink3Description: Package Specification; ComponentLink3URL: http://www.ti.com/lit/ml/mcfp004c/mcfp004c.pdf
footprint W0016A_N (CFP, 16-Leads, Body 10.92x7.24mm, Pitch 1.27mm, IPC Medium Density)
footprint W0016A_M (CFP, 16-Leads, Body 10.92x7.24mm, Pitch 1.27mm, IPC Low Density)
footprint W0016A_L (CFP, 16-Leads, Body 10.92x7.24mm, Pitch 1.27mm, IPC High Density)
pins: 1 ~{A}/B (in), 2 1A (in), 3 1B (in), 4 1Y (out), 5 2A (in), 6 2B (in), 7 2Y (out), 8 GND (power), 9 3Y (out), 10 3B (in), 11 3A (in), 12 4Y (out), 13 4B (in), 14 4A (in), 15 ~{G} (in), 16 VCC (power)

## 5962-8767101KA
designator U?
High-Performance Impact<TM> PAL<R> Circuits, W0024A, TUBE; Generic Part Number: TIBPAL20L8-20M; Manufacturer: Texas Instruments; PartNumber: 5962-8767101KA; Voltage Node(Nom)(V): 5; Rating: Military; DatasheetVersion: SRPS021A; PackageReference: W0024A; Operating Temperature Range(C): -55 to 125; ComponentLink1Description: Manufacturer URL; ComponentLink1URL: http://www.ti.com/; ComponentLink2Description: Datasheet; ComponentLink2URL: http://www.ti.com/lit/ds/symlink/tibpal20l8-20m.pdf
footprint W0024A_N (CFP, 24-Leads, Body 16.26x9.53mm, Pitch 1.27mm, IPC Medium Density)
footprint W0024A_M (CFP, 24-Leads, Body 16.26x9.53mm, Pitch 1.27mm, IPC Low Density)
footprint W0024A_L (CFP, 24-Leads, Body 16.26x9.53mm, Pitch 1.27mm, IPC High Density)
pins: 1 I (in), 2 I (in), 3 I (in), 4 I (in), 5 I (in), 6 I (in), 7 I (in), 8 I (in), 9 I (in), 10 I (in), 11 I (in), 12 GND (power), 13 I (in), 14 I (in), 15 O (hiz), 16 I/O (io), 17 I/O (io), 18 I/O (io), 19 I/O (io), 20 I/O (io), 21 I/O (io), 22 O (hiz), 23 I (in), 24 VCC (power)

## 5962-8767101LA
designator U?
High-Performance Impact<TM> PAL<R> Circuits, JT0024A, TUBE; Generic Part Number: TIBPAL20L8-20M; Manufacturer: Texas Instruments; PartNumber: 5962-8767101LA; Voltage Node(Nom)(V): 5; Rating: Military; DatasheetVersion: SRPS021A; PackageReference: JT0024A; Operating Temperature Range(C): -55 to 125; ComponentLink1Description: Manufacturer URL; ComponentLink1URL: http://www.ti.com/; ComponentLink2Description: Datasheet; ComponentLink2URL: http://www.ti.com/lit/ds/symlink/tibpal20l8-20m.pdf
footprint JT0024A (DIP, 24-Leads, Body 7.2x32.5mm, Pitch 2.54mm)
pins: 1 I (in), 2 I (in), 3 I (in), 4 I (in), 5 I (in), 6 I (in), 7 I (in), 8 I (in), 9 I (in), 10 I (in), 11 I (in), 12 GND (power), 13 I (in), 14 I (in), 15 O (hiz), 16 I/O (io), 17 I/O (io), 18 I/O (io), 19 I/O (io), 20 I/O (io), 21 I/O (io), 22 O (hiz), 23 I (in), 24 VCC (power)

## 5962-8767102KA
designator U?
High-Performance Impact<TM> PAL<R> Circuits, W0024A, TUBE; Generic Part Number: TIBPAL20R8-20M; Manufacturer: Texas Instruments; PartNumber: 5962-8767102KA; Voltage Node(Nom)(V): 5; Rating: Military; DatasheetVersion: SRPS021A; PackageReference: W0024A; Operating Temperature Range(C): -55 to 125; ComponentLink1Description: Manufacturer URL; ComponentLink1URL: http://www.ti.com/; ComponentLink2Description: Datasheet; ComponentLink2URL: http://www.ti.com/lit/ds/symlink/tibpal20r8-20m.pdf
footprint W0024A_N (CFP, 24-Leads, Body 16.26x9.53mm, Pitch 1.27mm, IPC Medium Density)
footprint W0024A_M (CFP, 24-Leads, Body 16.26x9.53mm, Pitch 1.27mm, IPC Low Density)
footprint W0024A_L (CFP, 24-Leads, Body 16.26x9.53mm, Pitch 1.27mm, IPC High Density)
pins: 1 CLK (in), 2 I (in), 3 I (in), 4 I (in), 5 I (in), 6 I (in), 7 I (in), 8 I (in), 9 I (in), 10 I (in), 11 I (in), 12 GND (power), 13 ~{OE} (in), 14 I (in), 15 Q (hiz), 16 Q (hiz), 17 Q (hiz), 18 Q (hiz), 19 Q (hiz), 20 Q (hiz), 21 Q (hiz), 22 Q (hiz), 23 I (in), 24 VCC (power)

## 5962-8767102LA
designator U?
High-Performance Impact<TM> PAL<R> Circuits, JT0024A, TUBE; Generic Part Number: TIBPAL20R8-20M; Manufacturer: Texas Instruments; PartNumber: 5962-8767102LA; Voltage Node(Nom)(V): 5; Rating: Military; DatasheetVersion: SRPS021A; PackageReference: JT0024A; Operating Temperature Range(C): -55 to 125; ComponentLink1Description: Manufacturer URL; ComponentLink1URL: http://www.ti.com/; ComponentLink2Description: Datasheet; ComponentLink2URL: http://www.ti.com/lit/ds/symlink/tibpal20r8-20m.pdf
footprint JT0024A (DIP, 24-Leads, Body 7.2x32.5mm, Pitch 2.54mm)
pins: 1 CLK (in), 2 I (in), 3 I (in), 4 I (in), 5 I (in), 6 I (in), 7 I (in), 8 I (in), 9 I (in), 10 I (in), 11 I (in), 12 GND (power), 13 ~{OE} (in), 14 I (in), 15 Q (hiz), 16 Q (hiz), 17 Q (hiz), 18 Q (hiz), 19 Q (hiz), 20 Q (hiz), 21 Q (hiz), 22 Q (hiz), 23 I (in), 24 VCC (power)

## 5962-8767104KA
designator U?
High-Performance Impact<TM> PAL<R> Circuits, W0024A, TUBE; Generic Part Number: TIBPAL20R4-20M; Manufacturer: Texas Instruments; PartNumber: 5962-8767104KA; Voltage Node(Nom)(V): 5; Rating: Military; DatasheetVersion: SRPS021A; PackageReference: W0024A; Operating Temperature Range(C): -55 to 125; ComponentLink1Description: Manufacturer URL; ComponentLink1URL: http://www.ti.com/; ComponentLink2Description: Datasheet; ComponentLink2URL: http://www.ti.com/lit/ds/symlink/tibpal20r4-20m.pdf
footprint W0024A_N (CFP, 24-Leads, Body 16.26x9.53mm, Pitch 1.27mm, IPC Medium Density)
footprint W0024A_M (CFP, 24-Leads, Body 16.26x9.53mm, Pitch 1.27mm, IPC Low Density)
footprint W0024A_L (CFP, 24-Leads, Body 16.26x9.53mm, Pitch 1.27mm, IPC High Density)
pins: 1 CLK (in), 2 I (in), 3 I (in), 4 I (in), 5 I (in), 6 I (in), 7 I (in), 8 I (in), 9 I (in), 10 I (in), 11 I (in), 12 GND (power), 13 ~{OE} (in), 14 I (in), 15 I/O (io), 16 I/O (io), 17 Q (hiz), 18 Q (hiz), 19 Q (hiz), 20 Q (hiz), 21 I/O (io), 22 I/O (io), 23 I (in), 24 VCC (power)

## 5962-8767104LA
designator U?
High-Performance Impact<TM> PAL<R> Circuits, JT0024A, TUBE; Generic Part Number: TIBPAL20R4-20M; Manufacturer: Texas Instruments; PartNumber: 5962-8767104LA; Voltage Node(Nom)(V): 5; Rating: Military; DatasheetVersion: SRPS021A; PackageReference: JT0024A; Operating Temperature Range(C): -55 to 125; ComponentLink1Description: Manufacturer URL; ComponentLink1URL: http://www.ti.com/; ComponentLink2Description: Datasheet; ComponentLink2URL: http://www.ti.com/lit/ds/symlink/tibpal20r4-20m.pdf
footprint JT0024A (DIP, 24-Leads, Body 7.2x32.5mm, Pitch 2.54mm)
pins: 1 CLK (in), 2 I (in), 3 I (in), 4 I (in), 5 I (in), 6 I (in), 7 I (in), 8 I (in), 9 I (in), 10 I (in), 11 I (in), 12 GND (power), 13 ~{OE} (in), 14 I (in), 15 I/O (io), 16 I/O (io), 17 Q (hiz), 18 Q (hiz), 19 Q (hiz), 20 Q (hiz), 21 I/O (io), 22 I/O (io), 23 I (in), 24 VCC (power)

## 5962-9220803M2A
designator U?
Quad 2-Input Multiplexer, FK0020A, TUBE; Generic Part Number: CY54FCT157T; Manufacturer: Texas Instruments; PartNumber: 5962-9220803M2A; VCC(Min)(V): 4.5; VCC(Max)(V): 5.5; Rating: Military; Technology Family: FCT; Schmitt Trigger: No; DatasheetVersion: SCCS014B; PackageReference: FK0020A; Operating Temperature Range(C): -55 to 125; Code_JEDEC: MS-004; ComponentLink1Description: Manufacturer URL; ComponentLink1URL: http://www.ti.com/; ComponentLink2Description: Datasheet; ComponentLink2URL: http://www.ti.com/lit/ds/symlink/cy54fct157t.pdf; ComponentLink3Description: Package Specification; ComponentLink3URL: http://www.ti.com/lit/ml/mlcc006d/mlcc006d.pdf
footprint FK0020A_N (LCC, 20-Leads, Body 8.9x8.9mm, Pitch 1.27mm, IPC Medium Density)
footprint FK0020A_M (LCC, 20-Leads, Body 8.9x8.9mm, Pitch 1.27mm, IPC Low Density)
footprint FK0020A_L (LCC, 20-Leads, Body 8.9x8.9mm, Pitch 1.27mm, IPC High Density)
part A pins: 2 S (in) "Common select input", 3 I0A (in) "Data inputs from source 0", 4 I1A (in) "Data inputs from source 1", 5 YA (hiz) "Noninverted outputs", 7 I0B (in) "Data inputs from source 0", 8 I1B (in) "Data inputs from source 1", 9 YB (hiz) "Noninverted outputs", 10 GND (power), 12 YC (hiz) "Noninverted outputs", 13 I1C (in) "Data inputs from source 1", 14 I0C (in) "Data inputs from source 0", 15 YD (hiz) "Noninverted outputs", 17 I1D (in) "Data inputs from source 1", 18 I0D (in) "Data inputs from source 0", 19 ~{E} (in) "Enable inputs (active low)", 20 VCC (power)
part B pins: 1 NC, 6 NC, 11 NC, 16 NC

## 5962-9223306MEA
designator U?
1-of-8 Decoder, J0016A, TUBE; Generic Part Number: CY54FCT138T; Manufacturer: Texas Instruments; PartNumber: 5962-9223306MEA; Rating: Military; Technology Family: FCT; Schmitt Trigger: No; DatasheetVersion: SCCS013B; PackageReference: J0016A; Operating Temperature Range(C): -55 to 125; ComponentLink1Description: Manufacturer URL; ComponentLink1URL: http://www.ti.com/; ComponentLink2Description: Datasheet; ComponentLink2URL: http://www.ti.com/lit/ds/symlink/cy54fct138t.pdf; ComponentLink3Description: Package Specification; ComponentLink3URL: http://www.ti.com/lit/ml/mcer002d/mcer002d.pdf
footprint J0016A (DIP, 16-Leads, Body 21.35x7.2mm, Pitch 2.54mm)
pins: 1 A0 (in) "Address inputs", 2 A1 (in) "Address inputs", 3 A2 (in) "Address inputs", 4 ~{E}1 (in) "Enable inputs (active low)", 5 ~{E}2 (in) "Enable inputs (active low)", 6 E3 (in) "Enable input (active high)", 7 ~{O}7 (out) "Outputs", 8 GND (power), 9 ~{O}6 (out) "Outputs", 10 ~{O}5 (out) "Outputs", 11 ~{O}4 (out) "Outputs", 12 ~{O}3 (out) "Outputs", 13 ~{O}2 (out) "Outputs", 14 ~{O}1 (out) "Outputs", 15 ~{O}0 (out) "Outputs", 16 VCC (power)

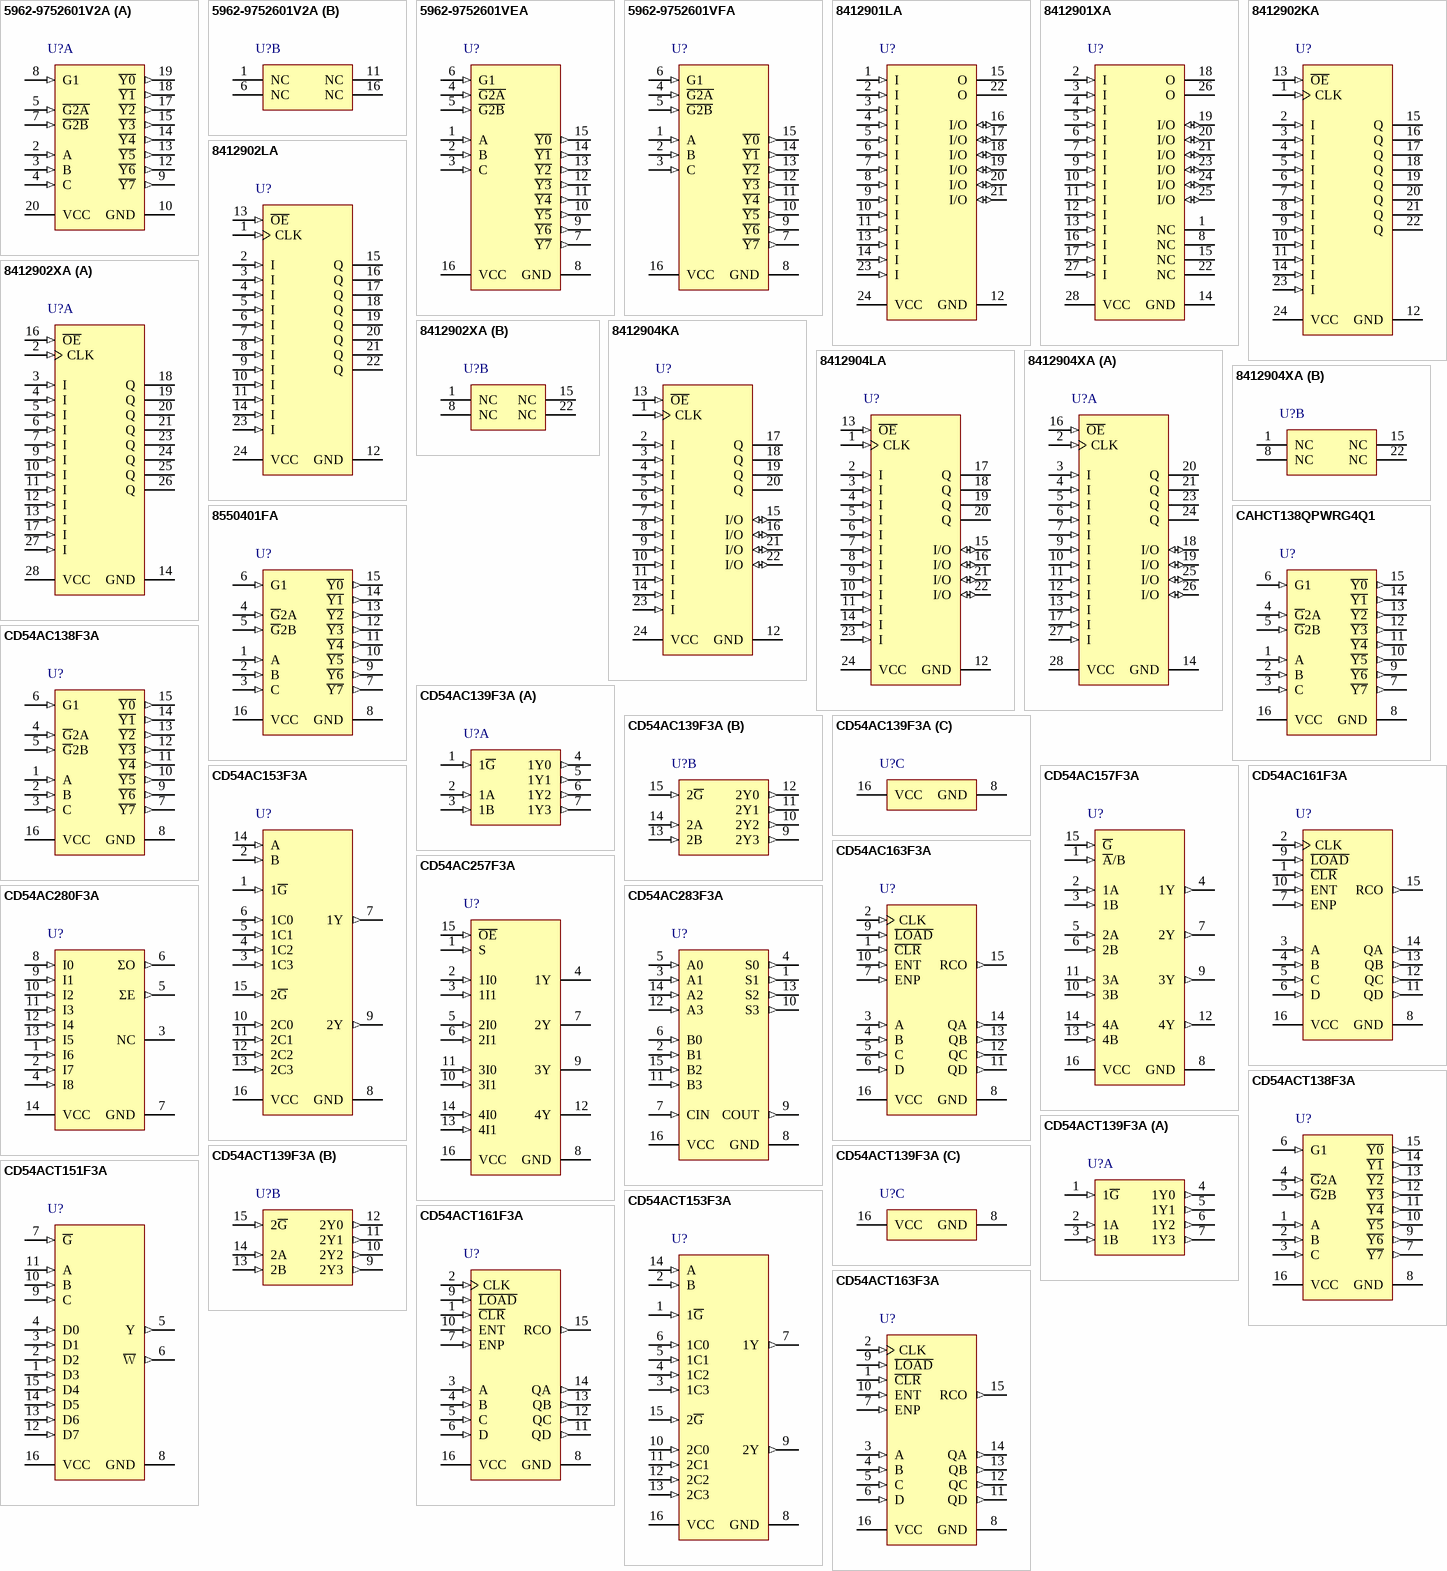
[diagram p2: symbols 5962-9752601V2A to CD54ACT163F3A]

## 5962-9752601V2A
designator U?
3-Line To 8-Line Decoder/Demultiplexer, FK0020A, TUBE; Generic Part Number: SN54LVC138A-SP; Manufacturer: Texas Instruments; PartNumber: 5962-9752601V2A; VCC(Min)(V): 2; VCC(Max)(V): 3.6; ICC @ Nom Voltage(Max)(mA): 0.01; F @ Nom Voltage(Max)(Mhz): 100; Rating: Space; Technology Family: LVC; Voltage(Nom)(V): 2.7,3.3; Schmitt Trigger: No; Output Drive (IOL/IOH)(Max)(mA): 24/-24; tpd @ Nom Voltage(Max)(ns): 7.9,6.7; DatasheetVersion: SCAS291V; PackageReference: FK0020A; Code_JEDEC: MS-004; ComponentLink1Description: Manufacturer URL; ComponentLink1URL: http://www.ti.com/; ComponentLink2Description: Datasheet; ComponentLink2URL: http://www.ti.com/lit/ds/symlink/sn54lvc138a-sp.pdf; ComponentLink3Description: Package Specification; ComponentLink3URL: http://www.ti.com/lit/ml/mlcc006d/mlcc006d.pdf
footprint FK0020A_N (LCC, 20-Leads, Body 8.9x8.9mm, Pitch 1.27mm, IPC Medium Density)
footprint FK0020A_M (LCC, 20-Leads, Body 8.9x8.9mm, Pitch 1.27mm, IPC Low Density)
footprint FK0020A_L (LCC, 20-Leads, Body 8.9x8.9mm, Pitch 1.27mm, IPC High Density)
part A pins: 2 A (in), 3 B (in), 4 C (in), 5 ~{G2A} (in), 7 ~{G2B} (in), 8 G1 (in), 9 ~{Y7} (out), 10 GND (power), 12 ~{Y6} (out), 13 ~{Y5} (out), 14 ~{Y4} (out), 15 ~{Y3} (out), 17 ~{Y2} (out), 18 ~{Y1} (out), 19 ~{Y0} (out), 20 VCC (power)
part B pins: 1 NC, 6 NC, 11 NC, 16 NC

## 5962-9752601VEA
designator U?
3-Line To 8-Line Decoder/Demultiplexer, J0016A, TUBE; Generic Part Number: SN54LVC138A-SP; Manufacturer: Texas Instruments; PartNumber: 5962-9752601VEA; VCC(Min)(V): 2; VCC(Max)(V): 3.6; ICC @ Nom Voltage(Max)(mA): 0.01; F @ Nom Voltage(Max)(Mhz): 100; Rating: Space; Technology Family: LVC; Voltage(Nom)(V): 2.7,3.3; Schmitt Trigger: No; Output Drive (IOL/IOH)(Max)(mA): 24/-24; tpd @ Nom Voltage(Max)(ns): 7.9,6.7; DatasheetVersion: SCAS291V; PackageReference: J0016A; ComponentLink1Description: Manufacturer URL; ComponentLink1URL: http://www.ti.com/; ComponentLink2Description: Datasheet; ComponentLink2URL: http://www.ti.com/lit/ds/symlink/sn54lvc138a-sp.pdf; ComponentLink3Description: Package Specification; ComponentLink3URL: http://www.ti.com/lit/ml/mcer002d/mcer002d.pdf
footprint J0016A (DIP, 16-Leads, Body 21.35x7.2mm, Pitch 2.54mm)
pins: 1 A (in), 2 B (in), 3 C (in), 4 ~{G2A} (in), 5 ~{G2B} (in), 6 G1 (in), 7 ~{Y7} (out), 8 GND (power), 9 ~{Y6} (out), 10 ~{Y5} (out), 11 ~{Y4} (out), 12 ~{Y3} (out), 13 ~{Y2} (out), 14 ~{Y1} (out), 15 ~{Y0} (out), 16 VCC (power)

## 5962-9752601VFA
designator U?
3-Line To 8-Line Decoder/Demultiplexer, W0016A, TUBE; Generic Part Number: SN54LVC138A-SP; Manufacturer: Texas Instruments; PartNumber: 5962-9752601VFA; VCC(Min)(V): 2; VCC(Max)(V): 3.6; ICC @ Nom Voltage(Max)(mA): 0.01; F @ Nom Voltage(Max)(Mhz): 100; Rating: Space; Technology Family: LVC; Voltage(Nom)(V): 2.7,3.3; Schmitt Trigger: No; Output Drive (IOL/IOH)(Max)(mA): 24/-24; tpd @ Nom Voltage(Max)(ns): 7.9,6.7; DatasheetVersion: SCAS291V; PackageReference: W0016A; ComponentLink1Description: Manufacturer URL; ComponentLink1URL: http://www.ti.com/; ComponentLink2Description: Datasheet; ComponentLink2URL: http://www.ti.com/lit/ds/symlink/sn54lvc138a-sp.pdf; ComponentLink3Description: Package Specification; ComponentLink3URL: http://www.ti.com/lit/ml/mcfp004c/mcfp004c.pdf
footprint W0016A_N (CFP, 16-Leads, Body 10.92x7.24mm, Pitch 1.27mm, IPC Medium Density)
footprint W0016A_M (CFP, 16-Leads, Body 10.92x7.24mm, Pitch 1.27mm, IPC Low Density)
footprint W0016A_L (CFP, 16-Leads, Body 10.92x7.24mm, Pitch 1.27mm, IPC High Density)
pins: 1 A (in), 2 B (in), 3 C (in), 4 ~{G2A} (in), 5 ~{G2B} (in), 6 G1 (in), 7 ~{Y7} (out), 8 GND (power), 9 ~{Y6} (out), 10 ~{Y5} (out), 11 ~{Y4} (out), 12 ~{Y3} (out), 13 ~{Y2} (out), 14 ~{Y1} (out), 15 ~{Y0} (out), 16 VCC (power)

## 8412901LA
designator U?
High-Performance Impact<TM> PAL<R> Circuits, JT0024A, TUBE; Generic Part Number: TIBPAL20L8-20M; Manufacturer: Texas Instruments; PartNumber: 8412901LA; Voltage Node(Nom)(V): 5; Rating: Military; DatasheetVersion: SRPS021A; PackageReference: JT0024A; Operating Temperature Range(C): -55 to 125; ComponentLink1Description: Manufacturer URL; ComponentLink1URL: http://www.ti.com/; ComponentLink2Description: Datasheet; ComponentLink2URL: http://www.ti.com/lit/ds/symlink/tibpal20l8-20m.pdf
footprint JT0024A (DIP, 24-Leads, Body 7.2x32.5mm, Pitch 2.54mm)
pins: 1 I (in), 2 I (in), 3 I (in), 4 I (in), 5 I (in), 6 I (in), 7 I (in), 8 I (in), 9 I (in), 10 I (in), 11 I (in), 12 GND (power), 13 I (in), 14 I (in), 15 O (hiz), 16 I/O (io), 17 I/O (io), 18 I/O (io), 19 I/O (io), 20 I/O (io), 21 I/O (io), 22 O (hiz), 23 I (in), 24 VCC (power)

## 8412901XA
designator U?
High-Performance Impact<TM> PAL<R> Circuits, FK0028A, TUBE; Generic Part Number: TIBPAL20L8-20M; Manufacturer: Texas Instruments; PartNumber: 8412901XA; Voltage Node(Nom)(V): 5; Rating: Military; DatasheetVersion: SRPS021A; PackageReference: FK0028A; Operating Temperature Range(C): -55 to 125; Code_JEDEC: MS-004; ComponentLink1Description: Manufacturer URL; ComponentLink1URL: http://www.ti.com/; ComponentLink2Description: Datasheet; ComponentLink2URL: http://www.ti.com/lit/ds/symlink/tibpal20l8-20m.pdf; ComponentLink3Description: Package Specification; ComponentLink3URL: http://www.ti.com/lit/ml/mlcc006d/mlcc006d.pdf
footprint FD0028A_N (LCC, 28-Leads, Body 11.43x11.43mm, Pitch 1.27mm, IPC Medium Density)
footprint FD0028A_M (LCC, 28-Leads, Body 11.43x11.43mm, Pitch 1.27mm, IPC Low Density)
footprint FD0028A_L (LCC, 28-Leads, Body 11.43x11.43mm, Pitch 1.27mm, IPC High Density)
pins: 1 NC, 2 I (in), 3 I (in), 4 I (in), 5 I (in), 6 I (in), 7 I (in), 8 NC, 9 I (in), 10 I (in), 11 I (in), 12 I (in), 13 I (in), 14 GND (power), 15 NC, 16 I (in), 17 I (in), 18 O (hiz), 19 I/O (io), 20 I/O (io), 21 I/O (io), 22 NC, 23 I/O (io), 24 I/O (io), 25 I/O (io), 26 O (hiz), 27 I (in), 28 VCC (power)

## 8412902KA
designator U?
High-Performance Impact<TM> PAL<R> Circuits, W0024A, TUBE; Generic Part Number: TIBPAL20R8-20M; Manufacturer: Texas Instruments; PartNumber: 8412902KA; Voltage Node(Nom)(V): 5; Rating: Military; DatasheetVersion: SRPS021A; PackageReference: W0024A; Operating Temperature Range(C): -55 to 125; ComponentLink1Description: Manufacturer URL; ComponentLink1URL: http://www.ti.com/; ComponentLink2Description: Datasheet; ComponentLink2URL: http://www.ti.com/lit/ds/symlink/tibpal20r8-20m.pdf
footprint W0024A_N (CFP, 24-Leads, Body 16.26x9.53mm, Pitch 1.27mm, IPC Medium Density)
footprint W0024A_M (CFP, 24-Leads, Body 16.26x9.53mm, Pitch 1.27mm, IPC Low Density)
footprint W0024A_L (CFP, 24-Leads, Body 16.26x9.53mm, Pitch 1.27mm, IPC High Density)
pins: 1 CLK (in), 2 I (in), 3 I (in), 4 I (in), 5 I (in), 6 I (in), 7 I (in), 8 I (in), 9 I (in), 10 I (in), 11 I (in), 12 GND (power), 13 ~{OE} (in), 14 I (in), 15 Q (hiz), 16 Q (hiz), 17 Q (hiz), 18 Q (hiz), 19 Q (hiz), 20 Q (hiz), 21 Q (hiz), 22 Q (hiz), 23 I (in), 24 VCC (power)

## 8412902LA
designator U?
High-Performance Impact<TM> PAL<R> Circuits, JT0024A, TUBE; Generic Part Number: TIBPAL20R8-20M; Manufacturer: Texas Instruments; PartNumber: 8412902LA; Voltage Node(Nom)(V): 5; Rating: Military; DatasheetVersion: SRPS021A; PackageReference: JT0024A; Operating Temperature Range(C): -55 to 125; ComponentLink1Description: Manufacturer URL; ComponentLink1URL: http://www.ti.com/; ComponentLink2Description: Datasheet; ComponentLink2URL: http://www.ti.com/lit/ds/symlink/tibpal20r8-20m.pdf
footprint JT0024A (DIP, 24-Leads, Body 7.2x32.5mm, Pitch 2.54mm)
pins: 1 CLK (in), 2 I (in), 3 I (in), 4 I (in), 5 I (in), 6 I (in), 7 I (in), 8 I (in), 9 I (in), 10 I (in), 11 I (in), 12 GND (power), 13 ~{OE} (in), 14 I (in), 15 Q (hiz), 16 Q (hiz), 17 Q (hiz), 18 Q (hiz), 19 Q (hiz), 20 Q (hiz), 21 Q (hiz), 22 Q (hiz), 23 I (in), 24 VCC (power)

## 8412902XA
designator U?
High-Performance Impact<TM> PAL<R> Circuits, FK0028A, TUBE; Generic Part Number: TIBPAL20R8-20M; Manufacturer: Texas Instruments; PartNumber: 8412902XA; Voltage Node(Nom)(V): 5; Rating: Military; DatasheetVersion: SRPS021A; PackageReference: FK0028A; Operating Temperature Range(C): -55 to 125; Code_JEDEC: MS-004; ComponentLink1Description: Manufacturer URL; ComponentLink1URL: http://www.ti.com/; ComponentLink2Description: Datasheet; ComponentLink2URL: http://www.ti.com/lit/ds/symlink/tibpal20r8-20m.pdf; ComponentLink3Description: Package Specification; ComponentLink3URL: http://www.ti.com/lit/ml/mlcc006d/mlcc006d.pdf
footprint FD0028A_N (LCC, 28-Leads, Body 11.43x11.43mm, Pitch 1.27mm, IPC Medium Density)
footprint FD0028A_M (LCC, 28-Leads, Body 11.43x11.43mm, Pitch 1.27mm, IPC Low Density)
footprint FD0028A_L (LCC, 28-Leads, Body 11.43x11.43mm, Pitch 1.27mm, IPC High Density)
part A pins: 2 CLK (in), 3 I (in), 4 I (in), 5 I (in), 6 I (in), 7 I (in), 9 I (in), 10 I (in), 11 I (in), 12 I (in), 13 I (in), 14 GND (power), 16 ~{OE} (in), 17 I (in), 18 Q (hiz), 19 Q (hiz), 20 Q (hiz), 21 Q (hiz), 23 Q (hiz), 24 Q (hiz), 25 Q (hiz), 26 Q (hiz), 27 I (in), 28 VCC (power)
part B pins: 1 NC, 8 NC, 15 NC, 22 NC

## 8412904KA
designator U?
High-Performance Impact<TM> PAL<R> Circuits, W0024A, TUBE; Generic Part Number: TIBPAL20R4-20M; Manufacturer: Texas Instruments; PartNumber: 8412904KA; Voltage Node(Nom)(V): 5; Rating: Military; DatasheetVersion: SRPS021A; PackageReference: W0024A; Operating Temperature Range(C): -55 to 125; ComponentLink1Description: Manufacturer URL; ComponentLink1URL: http://www.ti.com/; ComponentLink2Description: Datasheet; ComponentLink2URL: http://www.ti.com/lit/ds/symlink/tibpal20r4-20m.pdf
footprint W0024A_N (CFP, 24-Leads, Body 16.26x9.53mm, Pitch 1.27mm, IPC Medium Density)
footprint W0024A_M (CFP, 24-Leads, Body 16.26x9.53mm, Pitch 1.27mm, IPC Low Density)
footprint W0024A_L (CFP, 24-Leads, Body 16.26x9.53mm, Pitch 1.27mm, IPC High Density)
pins: 1 CLK (in), 2 I (in), 3 I (in), 4 I (in), 5 I (in), 6 I (in), 7 I (in), 8 I (in), 9 I (in), 10 I (in), 11 I (in), 12 GND (power), 13 ~{OE} (in), 14 I (in), 15 I/O (io), 16 I/O (io), 17 Q (hiz), 18 Q (hiz), 19 Q (hiz), 20 Q (hiz), 21 I/O (io), 22 I/O (io), 23 I (in), 24 VCC (power)

## 8412904LA
designator U?
High-Performance Impact<TM> PAL<R> Circuits, JT0024A, TUBE; Generic Part Number: TIBPAL20R4-20M; Manufacturer: Texas Instruments; PartNumber: 8412904LA; Voltage Node(Nom)(V): 5; Rating: Military; DatasheetVersion: SRPS021A; PackageReference: JT0024A; Operating Temperature Range(C): -55 to 125; ComponentLink1Description: Manufacturer URL; ComponentLink1URL: http://www.ti.com/; ComponentLink2Description: Datasheet; ComponentLink2URL: http://www.ti.com/lit/ds/symlink/tibpal20r4-20m.pdf
footprint JT0024A (DIP, 24-Leads, Body 7.2x32.5mm, Pitch 2.54mm)
pins: 1 CLK (in), 2 I (in), 3 I (in), 4 I (in), 5 I (in), 6 I (in), 7 I (in), 8 I (in), 9 I (in), 10 I (in), 11 I (in), 12 GND (power), 13 ~{OE} (in), 14 I (in), 15 I/O (io), 16 I/O (io), 17 Q (hiz), 18 Q (hiz), 19 Q (hiz), 20 Q (hiz), 21 I/O (io), 22 I/O (io), 23 I (in), 24 VCC (power)

## 8412904XA
designator U?
High-Performance Impact<TM> PAL<R> Circuits, FK0028A, TUBE; Generic Part Number: TIBPAL20R4-20M; Manufacturer: Texas Instruments; PartNumber: 8412904XA; Voltage Node(Nom)(V): 5; Rating: Military; DatasheetVersion: SRPS021A; PackageReference: FK0028A; Operating Temperature Range(C): -55 to 125; Code_JEDEC: MS-004; ComponentLink1Description: Manufacturer URL; ComponentLink1URL: http://www.ti.com/; ComponentLink2Description: Datasheet; ComponentLink2URL: http://www.ti.com/lit/ds/symlink/tibpal20r4-20m.pdf; ComponentLink3Description: Package Specification; ComponentLink3URL: http://www.ti.com/lit/ml/mlcc006d/mlcc006d.pdf
footprint FD0028A_N (LCC, 28-Leads, Body 11.43x11.43mm, Pitch 1.27mm, IPC Medium Density)
footprint FD0028A_M (LCC, 28-Leads, Body 11.43x11.43mm, Pitch 1.27mm, IPC Low Density)
footprint FD0028A_L (LCC, 28-Leads, Body 11.43x11.43mm, Pitch 1.27mm, IPC High Density)
part A pins: 2 CLK (in), 3 I (in), 4 I (in), 5 I (in), 6 I (in), 7 I (in), 9 I (in), 10 I (in), 11 I (in), 12 I (in), 13 I (in), 14 GND (power), 16 ~{OE} (in), 17 I (in), 18 I/O (io), 19 I/O (io), 20 Q (hiz), 21 Q (hiz), 23 Q (hiz), 24 Q (hiz), 25 I/O (io), 26 I/O (io), 27 I (in), 28 VCC (power)
part B pins: 1 NC, 8 NC, 15 NC, 22 NC

## 8550401FA
designator U?
3-Line To 8-Line Decoders/Demultiplexers, W0016A, TUBE; Generic Part Number: SN54HCT138; Manufacturer: Texas Instruments; PartNumber: 8550401FA; VCC(Min)(V): 4.5; VCC(Max)(V): 5.5; Rating: Military; Technology Family: HCT; Schmitt Trigger: No; DatasheetVersion: SCLS171E; PackageReference: W0016A; Operating Temperature Range(C): -55 to 125; ComponentLink1Description: Manufacturer URL; ComponentLink1URL: http://www.ti.com/; ComponentLink2Description: Datasheet; ComponentLink2URL: http://www.ti.com/lit/ds/symlink/sn54hct138.pdf; ComponentLink3Description: Package Specification; ComponentLink3URL: http://www.ti.com/lit/ml/mcfp004c/mcfp004c.pdf
footprint W0016A_N (CFP, 16-Leads, Body 10.92x7.24mm, Pitch 1.27mm, IPC Medium Density)
footprint W0016A_M (CFP, 16-Leads, Body 10.92x7.24mm, Pitch 1.27mm, IPC Low Density)
footprint W0016A_L (CFP, 16-Leads, Body 10.92x7.24mm, Pitch 1.27mm, IPC High Density)
pins: 1 A (in), 2 B (in), 3 C (in), 4 ~{G}2A (in), 5 ~{G}2B (in), 6 G1 (in), 7 ~{Y7} (out), 8 GND (power), 9 ~{Y6} (out), 10 ~{Y5} (out), 11 ~{Y4} (out), 12 ~{Y3} (out), 13 ~{Y2} (out), 14 ~{Y1} (out), 15 ~{Y0} (out), 16 VCC (power)

## CAHCT138QPWRG4Q1
designator U?
Automotive Catalog 3-Line to 8-Line Decoders/Demultiplexers, PW0016A, LARGE T&R; Generic Part Number: SN74AHCT138Q-Q1; Manufacturer: Texas Instruments; PartNumber: CAHCT138QPWRG4Q1; VCC(Min)(V): 4.5; VCC(Max)(V): 5.5; Output Type: CMOS; ICC @ Nom Voltage(Max)(mA): 0.04; Input Type: TTL; Bits(#): 4; F @ Nom Voltage(Max)(Mhz): 70; Channels(#): 1; Technology Family: AHCT; Voltage(Nom)(V): 5; Schmitt Trigger: No; Output Drive (IOL/IOH)(Max)(mA): 8/-8; tpd @ Nom Voltage(Max)(ns): 12; DatasheetVersion: SGDS022A; PackageReference: PW0016A; Supplier 1: Mouser; Supplier Part Number 1: 595-CAHCT138QPWRG4Q1; Supplier 2: Digi-Key; Supplier Part Number 2: CAHCT138QPWRG4Q1-ND; Operating Temperature Range(C): -40 to 125; Type: Standard; Rating: Automotive; Code_JEDEC: MO-153; ComponentLink1Description: Manufacturer URL; ComponentLink1URL: http://www.ti.com/; ComponentLink2Description: Datasheet; ComponentLink2URL: http://www.ti.com/lit/ds/symlink/sn74ahct138q-q1.pdf; ComponentLink3Description: Package Specification; ComponentLink3URL: http://www.ti.com/lit/ml/mpds361/mpds361.pdf
footprint PW0016A_N (SOP, 16-Leads, Body 5.1x4.5mm, Pitch 0.65mm, IPC Medium Density)
footprint PW0016A_M (SOP, 16-Leads, Body 5.1x4.5mm, Pitch 0.65mm, IPC Low Density)
footprint PW0016A_L (SOP, 16-Leads, Body 5.1x4.5mm, Pitch 0.65mm, IPC High Density)
pins: 1 A (in), 2 B (in), 3 C (in), 4 ~{G}2A (in), 5 ~{G}2B (in), 6 G1 (in), 7 ~{Y7} (out), 8 GND (power), 9 ~{Y6} (out), 10 ~{Y5} (out), 11 ~{Y4} (out), 12 ~{Y3} (out), 13 ~{Y2} (out), 14 ~{Y1} (out), 15 ~{Y0} (out), 16 VCC (power)

## CD54AC138F3A
designator U?
3-Line to 8-Line Inverting Decoders/Demultiplexers, J0016A, TUBE; Generic Part Number: CD54AC138; Manufacturer: Texas Instruments; PartNumber: CD54AC138F3A; VCC(Min)(V): 1.5; VCC(Max)(V): 5.5; ICC @ Nom Voltage(Max)(mA): 0.08; F @ Nom Voltage(Max)(Mhz): 100; Rating: Military; Technology Family: AC; Voltage(Nom)(V): 1.5,3.3,5; Schmitt Trigger: No; Output Drive (IOL/IOH)(Max)(mA): 24/-24; tpd @ Nom Voltage(Max)(ns): 125,14,10; DatasheetVersion: SCHS328A; PackageReference: J0016A; Operating Temperature Range(C): -55 to 125; ComponentLink1Description: Manufacturer URL; ComponentLink1URL: http://www.ti.com/; ComponentLink2Description: Datasheet; ComponentLink2URL: http://www.ti.com/lit/ds/symlink/cd54ac138.pdf; ComponentLink3Description: Package Specification; ComponentLink3URL: http://www.ti.com/lit/ml/mcer002d/mcer002d.pdf
footprint J0016A (DIP, 16-Leads, Body 21.35x7.2mm, Pitch 2.54mm)
pins: 1 A (in), 2 B (in), 3 C (in), 4 ~{G}2A (in), 5 ~{G}2B (in), 6 G1 (in), 7 ~{Y7} (out), 8 GND (power), 9 ~{Y6} (out), 10 ~{Y5} (out), 11 ~{Y4} (out), 12 ~{Y3} (out), 13 ~{Y2} (out), 14 ~{Y1} (out), 15 ~{Y0} (out), 16 VCC (power)

## CD54AC139F3A
designator U?
Dual 2-to-4 Line Decoder/Demultiplexers, J0016A, TUBE; Generic Part Number: CD54AC139; Manufacturer: Texas Instruments; PartNumber: CD54AC139F3A; VCC(Min)(V): 1.5; VCC(Max)(V): 5.5; ICC @ Nom Voltage(Max)(mA): 0.08; F @ Nom Voltage(Max)(Mhz): 100; Rating: Military; Technology Family: AC; Voltage(Nom)(V): 1.5,3.3,5; Schmitt Trigger: No; Output Drive (IOL/IOH)(Max)(mA): 24/-24; tpd @ Nom Voltage(Max)(ns): 119,13.4,9.5; DatasheetVersion: SCHS332; PackageReference: J0016A; Operating Temperature Range(C): -55 to 125; ComponentLink1Description: Manufacturer URL; ComponentLink1URL: http://www.ti.com/; ComponentLink2Description: Datasheet; ComponentLink2URL: http://www.ti.com/lit/ds/symlink/cd54ac139.pdf; ComponentLink3Description: Package Specification; ComponentLink3URL: http://www.ti.com/lit/ml/mcer002d/mcer002d.pdf
footprint J0016A (DIP, 16-Leads, Body 21.35x7.2mm, Pitch 2.54mm)
part A pins: 1 1~{G} (in), 2 1A (in), 3 1B (in), 4 1Y0 (out), 5 1Y1 (out), 6 1Y2 (out), 7 1Y3 (out)
part B pins: 9 2Y3 (out), 10 2Y2 (out), 11 2Y1 (out), 12 2Y0 (out), 13 2B (in), 14 2A (in), 15 2~{G} (in)
part C pins: 8 GND (power), 16 VCC (power)